# EAGLE library part SILICONLABS-HUMIDITY-SI7005 (library Pygmy)
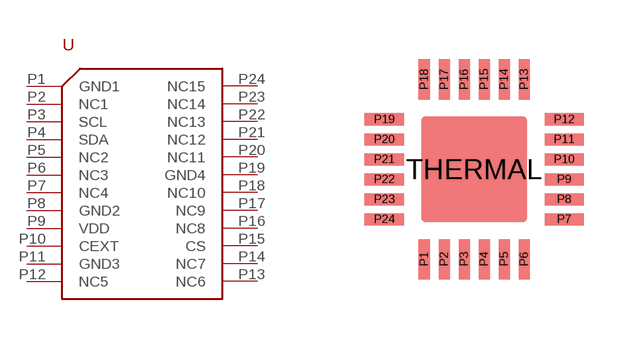
[diagram p94: symbol with the pads of SILICONLABS-TQFN-24; footprint SILICONLABS-TQFN-24]

Designator prefix U

## SILICONLABS-HUMIDITY-SI7005  [SILICONLABS-TQFN-24]
P1  GND1
P2  NC1
P3  SCL
P4  SDA
P5  NC2
P6  NC3
P7  NC4
P8  GND2
P9  VDD
P10  CEXT
P11  GND3
P12  NC5
P13  NC6
P14  NC7
P15  CS
P16  NC8
P17  NC9
P18  NC10
P19  GND4
P20  NC11
P21  NC12
P22  NC13
P23  NC14
P24  NC15

## Footprint SILICONLABS-TQFN-24 (pad centres in mm)
smd 0.3 x 1: P1 -1.25,-2.25; P2 -0.75,-2.25; P3 -0.25,-2.25; P4 0.25,-2.25; P5 0.75,-2.25; P6 1.25,-2.25; P13 1.25,2.25; P14 0.75,2.25; P15 0.25,2.25; P16 -0.25,2.25; P17 -0.75,2.25; P18 -1.25,2.25
smd 1 x 0.3: P7 2.25,-1.25; P8 2.25,-0.75; P9 2.25,-0.25; P10 2.25,0.25; P11 2.25,0.75; P12 2.25,1.25; P19 -2.25,1.25; P20 -2.25,0.75; P21 -2.25,0.25; P22 -2.25,-0.25; P23 -2.25,-0.75; P24 -2.25,-1.25
smd 2.65 x 2.65: THERMAL 0,0